# Altium schematic symbol library UCLAMP0571P.TNT.SchLib: 1 symbol
Pins are listed as number, name and electrical type; pins without a type are passive.

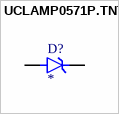
[diagram p0: symbol UCLAMP0571P.TNT]

## UCLAMP0571P.TNT
designator D?
15V Clamp 80A Ipp Tvs Diode Surface Mount SGP1610N2; MF: Semtech Corporation; MP: UCLAMP0571P.TNT; SnapEDA_Link: https://www.snapeda.com/parts/UCLAMP0571P.TNT/Semtech+Corporation/view-part/?ref=snap; Package: UDFN-2 Semtech; Value: *; Check_prices: https://www.snapeda.com/parts/UCLAMP0571P.TNT/Semtech+Corporation/view-part/?ref=eda
footprint DIO_UCLAMP0571P.TNT
pins: A, K